# Altium footprint library mycustomlibary.PcbLib: 1 footprints
Each footprint in its own frame and in the unit in brackets; x right, y up, seen from the top. Pads: shape width x height; smd on the part's side, far side on the other; paste and mask are expansions set on the pad; w line width, h text height; cw(c..) or ccw(c..) is an arc to the next point about the centre after c.
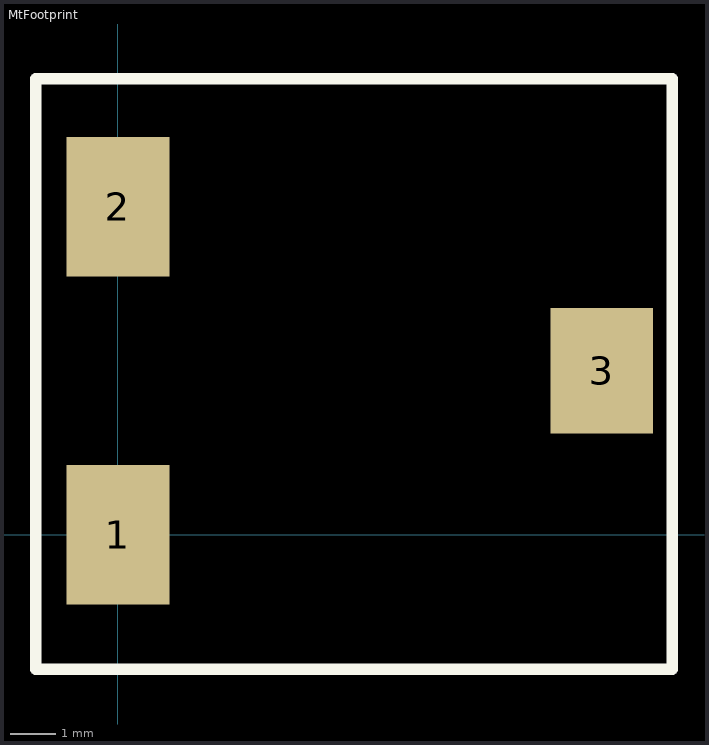
[diagram p0: the footprint, top view; thin cyan lines are the x and y axes]

## MtFootprint [mm]
pads (3):
  rect 2.26x3.07 smd: 1(0,0) 2(0,7.21)
  rect 2.26x2.77 smd: 3(10.64,3.605)
Top Overlay:
  lines w0.254: -1.808,-2.967 12.192,-2.967 12.192,10.033 -1.808,10.033 -1.808,-2.967